# Altium footprint library Connector_Phoenix_MC.PcbLib: 180 footprints (part 3 of 12)
Each footprint in its own frame and in the unit in brackets; x right, y up, seen from the top. Pads: shape width x height; smd on the part's side, far side on the other; paste and mask are expansions set on the pad; w line width, h text height; cw(c..) or ccw(c..) is an arc to the next point about the centre after c.
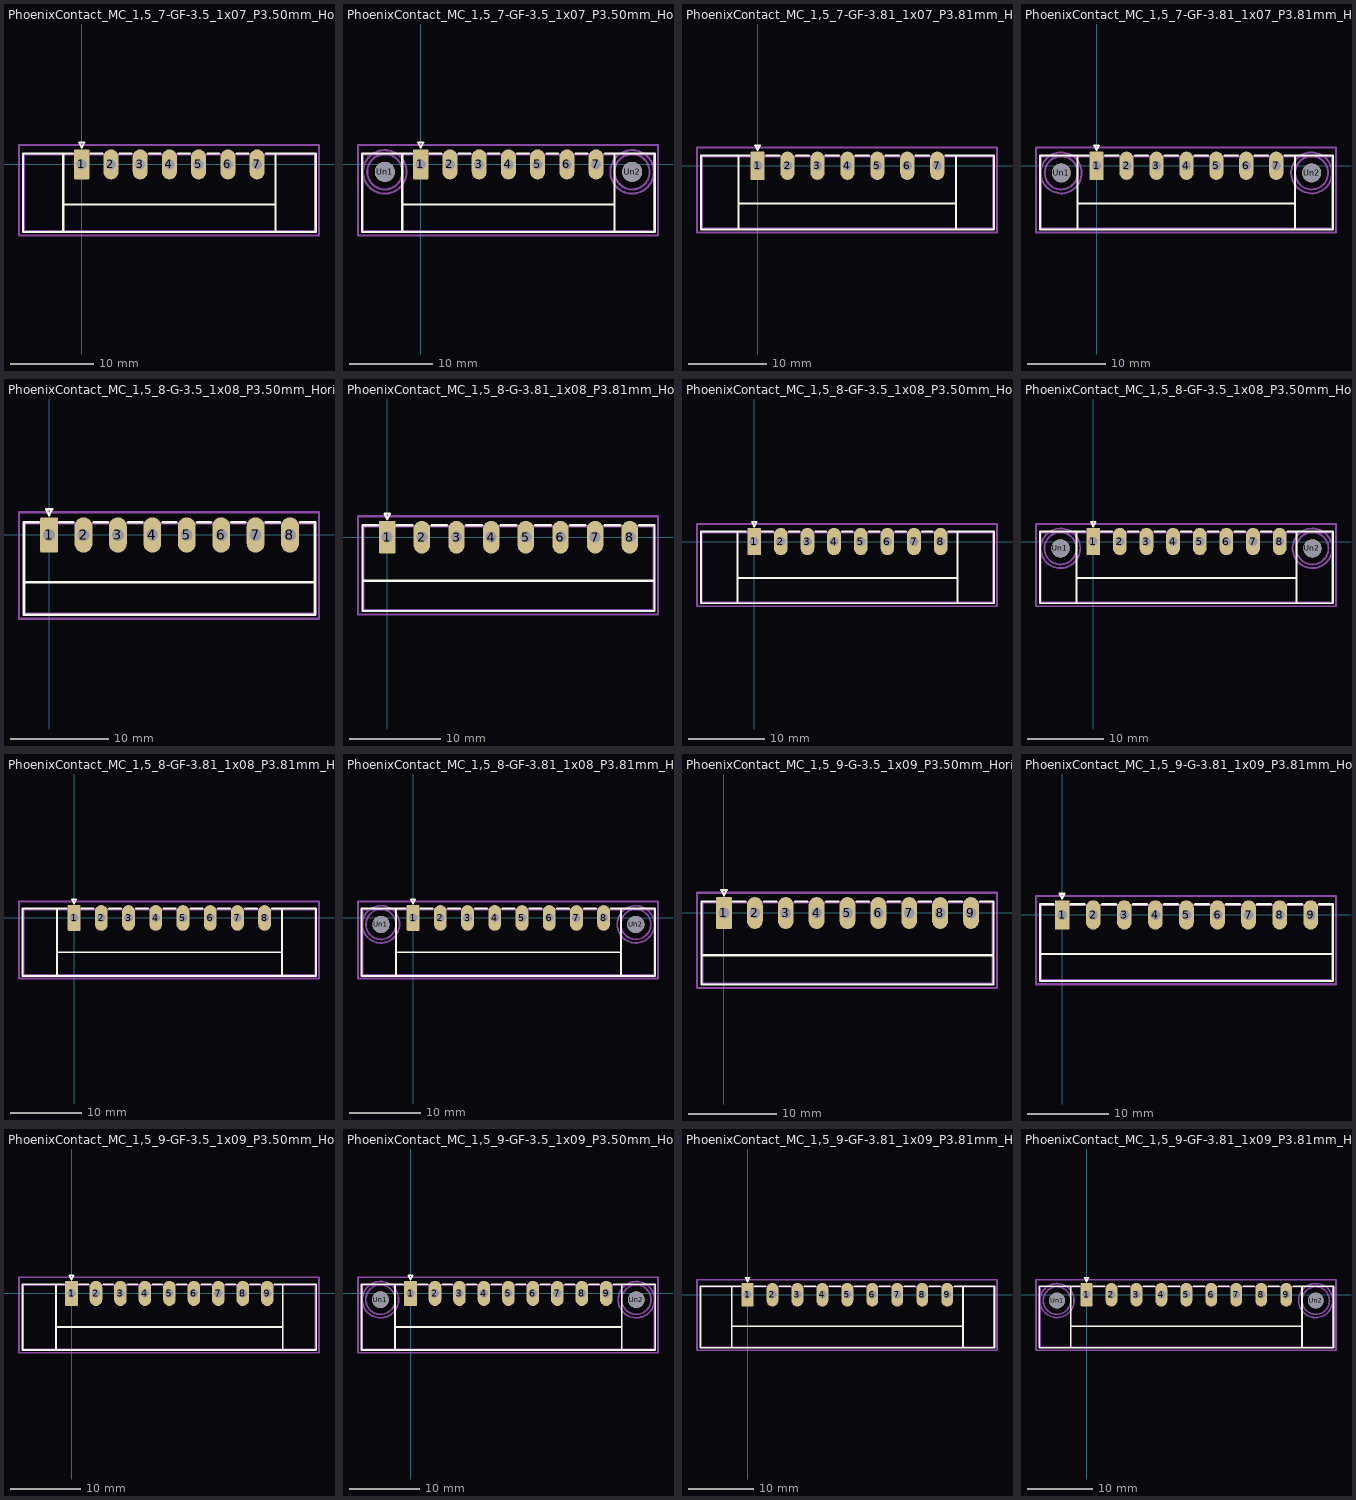
[diagram p2: the footprints below, top view; thin cyan lines are the x and y axes]

## PhoenixContact_MC_1,5_7-GF-3.5_1x07_P3.50mm_Horizontal_ThreadedFlange [mm]
pads (7):
  rrect14% 1.8x3.6 hole 1.2: 1(0,0)
  rrect100% 1.8x3.6 hole 1.2: 2(3.5,0) 3(7,0) 4(10.5,0) 5(14,0) 6(17.5,0) 7(21,0)
F.SilkS:
  lines w0.254: -2.21,-8.11 -2.21,1.31 ; -2.21,-4.8 23.21,-4.8 ; -1.05,1.31 -7.01,1.31 -7.01,-8.11 28.01,-8.11 28.01,1.31 22.05,1.31 ; 1.05,1.31 2.45,1.31 ; 4.55,1.31 5.95,1.31 ; 8.05,1.31 9.45,1.31 ; 11.55,1.31 12.95,1.31 ; 15.05,1.31 16.45,1.31 ; 18.55,1.31 19.95,1.31 ; 23.21,-8.11 23.21,1.31 ; -0.3,2.6 0,2 0.3,2.6 -0.3,2.6
Top Assembly:
  lines w0.254: -0.8,1.2 0,0 0.8,1.2 ; -6.9,-8 27.9,-8 27.9,1.2 -6.9,1.2 -6.9,-8
  text "'.Designator'" at 6.453,-0.34 h1
Top Courtyard:
  lines w0.254: -7.51,-8.5 28.4,-8.5 28.4,2.3 -7.51,2.3 -7.51,-8.5
Top Designator:
  text ".Designator" at 2.827,-3.458 h1.52

## PhoenixContact_MC_1,5_7-GF-3.5_1x07_P3.50mm_Horizontal_ThreadedFlange_MountHole [mm]
pads (9):
  rrect14% 1.8x3.6 hole 1.2: 1(0,0)
  rrect100% 1.8x3.6 hole 1.2: 2(3.5,0) 3(7,0) 4(10.5,0) 5(14,0) 6(17.5,0) 7(21,0)
  round 2.4 hole 2.4: Un1(-4.3,-0.9) Un2(25.3,-0.9)
F.SilkS:
  lines w0.254: -2.21,-8.11 -2.21,1.31 ; -2.21,-4.8 23.21,-4.8 ; -1.05,1.31 -7.01,1.31 -7.01,-8.11 28.01,-8.11 28.01,1.31 22.05,1.31 ; 1.05,1.31 2.45,1.31 ; 4.55,1.31 5.95,1.31 ; 8.05,1.31 9.45,1.31 ; 11.55,1.31 12.95,1.31 ; 15.05,1.31 16.45,1.31 ; 18.55,1.31 19.95,1.31 ; 23.21,-8.11 23.21,1.31 ; -0.3,2.6 0,2 0.3,2.6 -0.3,2.6
B.SilkS:
  circle w0.254: c25.3,-0.9 r2.21
  circle w0.254: c-4.3,-0.9 r2.21
Top Assembly:
  lines w0.254: -0.8,1.2 0,0 0.8,1.2 ; -6.9,-8 27.9,-8 27.9,1.2 -6.9,1.2 -6.9,-8
  text "'.Designator'" at 6.453,-0.34 h1
Bottom Assembly:
  circle w0.254: c25.3,-0.9 r2.1
  circle w0.254: c-4.3,-0.9 r2.1
Top Courtyard:
  lines w0.254: -7.51,-8.5 28.4,-8.5 28.4,2.3 -7.51,2.3 -7.51,-8.5
Bottom Courtyard:
  circle w0.254: c25.3,-0.9 r2.6
  circle w0.254: c-4.3,-0.9 r2.6
Top Designator:
  text ".Designator" at 2.827,-3.458 h1.52

## PhoenixContact_MC_1,5_7-GF-3.81_1x07_P3.81mm_Horizontal_ThreadedFlange [mm]
pads (7):
  rrect14% 1.8x3.6 hole 1.2: 1(0,0)
  rrect100% 1.8x3.6 hole 1.2: 2(3.81,0) 3(7.62,0) 4(11.43,0) 5(15.24,0) 6(19.05,0) 7(22.86,0)
F.SilkS:
  lines w0.254: -2.41,-8.11 -2.41,1.31 ; -2.41,-4.8 25.27,-4.8 ; -1.05,1.31 -7.21,1.31 -7.21,-8.11 30.07,-8.11 30.07,1.31 23.91,1.31 ; 1.05,1.31 2.76,1.31 ; 4.86,1.31 6.57,1.31 ; 8.67,1.31 10.38,1.31 ; 12.48,1.31 14.19,1.31 ; 16.29,1.31 18,1.31 ; 20.1,1.31 21.81,1.31 ; 25.27,-8.11 25.27,1.31 ; -0.3,2.6 0,2 0.3,2.6 -0.3,2.6
Top Assembly:
  lines w0.254: -0.8,1.2 0,0 0.8,1.2 ; -7.1,-8 29.96,-8 29.96,1.2 -7.1,1.2 -7.1,-8
  text "'.Designator'" at 7.383,-0.34 h1
Top Courtyard:
  lines w0.254: -7.71,-8.5 30.46,-8.5 30.46,2.3 -7.71,2.3 -7.71,-8.5
Top Designator:
  text ".Designator" at 3.757,-3.458 h1.52

## PhoenixContact_MC_1,5_7-GF-3.81_1x07_P3.81mm_Horizontal_ThreadedFlange_MountHole [mm]
pads (9):
  rrect14% 1.8x3.6 hole 1.2: 1(0,0)
  rrect100% 1.8x3.6 hole 1.2: 2(3.81,0) 3(7.62,0) 4(11.43,0) 5(15.24,0) 6(19.05,0) 7(22.86,0)
  round 2.4 hole 2.4: Un1(-4.5,-0.9) Un2(27.36,-0.9)
F.SilkS:
  lines w0.254: -2.41,-8.11 -2.41,1.31 ; -2.41,-4.8 25.27,-4.8 ; -1.05,1.31 -7.21,1.31 -7.21,-8.11 30.07,-8.11 30.07,1.31 23.91,1.31 ; 1.05,1.31 2.76,1.31 ; 4.86,1.31 6.57,1.31 ; 8.67,1.31 10.38,1.31 ; 12.48,1.31 14.19,1.31 ; 16.29,1.31 18,1.31 ; 20.1,1.31 21.81,1.31 ; 25.27,-8.11 25.27,1.31 ; -0.3,2.6 0,2 0.3,2.6 -0.3,2.6
B.SilkS:
  circle w0.254: c27.36,-0.9 r2.21
  circle w0.254: c-4.5,-0.9 r2.21
Top Assembly:
  lines w0.254: -0.8,1.2 0,0 0.8,1.2 ; -7.1,-8 29.96,-8 29.96,1.2 -7.1,1.2 -7.1,-8
  text "'.Designator'" at 7.383,-0.34 h1
Bottom Assembly:
  circle w0.254: c27.36,-0.9 r2.1
  circle w0.254: c-4.5,-0.9 r2.1
Top Courtyard:
  lines w0.254: -7.71,-8.5 30.46,-8.5 30.46,2.3 -7.71,2.3 -7.71,-8.5
Bottom Courtyard:
  circle w0.254: c27.36,-0.9 r2.6
  circle w0.254: c-4.5,-0.9 r2.6
Top Designator:
  text ".Designator" at 3.757,-3.458 h1.52

## PhoenixContact_MC_1,5_8-G-3.5_1x08_P3.50mm_Horizontal [mm]
pads (8):
  rrect14% 1.8x3.6 hole 1.2: 1(0,0)
  rrect100% 1.8x3.6 hole 1.2: 2(3.5,0) 3(7,0) 4(10.5,0) 5(14,0) 6(17.5,0) 7(21,0) 8(24.5,0)
F.SilkS:
  lines w0.254: -2.56,-4.8 27.06,-4.8 ; -1.05,1.31 -2.56,1.31 -2.56,-8.11 27.06,-8.11 27.06,1.31 25.55,1.31 ; 1.05,1.31 2.45,1.31 ; 4.55,1.31 5.95,1.31 ; 8.05,1.31 9.45,1.31 ; 11.55,1.31 12.95,1.31 ; 15.05,1.31 16.45,1.31 ; 18.55,1.31 19.95,1.31 ; 22.05,1.31 23.45,1.31 ; -0.3,2.6 0,2 0.3,2.6 -0.3,2.6
Top Assembly:
  lines w0.254: -0.8,1.2 0,0 0.8,1.2 ; -2.45,-8 26.95,-8 26.95,1.2 -2.45,1.2 -2.45,-8
  text "'.Designator'" at 8.203,-0.34 h1
Top Courtyard:
  lines w0.254: -3.06,-8.5 27.45,-8.5 27.45,2.3 -3.06,2.3 -3.06,-8.5
Top Designator:
  text ".Designator" at 4.577,-3.458 h1.52

## PhoenixContact_MC_1,5_8-G-3.81_1x08_P3.81mm_Horizontal [mm]
pads (8):
  rrect14% 1.8x3.6 hole 1.2: 1(0,0)
  rrect100% 1.8x3.6 hole 1.2: 2(3.81,0) 3(7.62,0) 4(11.43,0) 5(15.24,0) 6(19.05,0) 7(22.86,0) 8(26.67,0)
F.SilkS:
  lines w0.254: -2.71,-4.8 29.38,-4.8 ; -1.05,1.31 -2.71,1.31 -2.71,-8.11 29.38,-8.11 29.38,1.31 27.72,1.31 ; 1.05,1.31 2.76,1.31 ; 4.86,1.31 6.57,1.31 ; 8.67,1.31 10.38,1.31 ; 12.48,1.31 14.19,1.31 ; 16.29,1.31 18,1.31 ; 20.1,1.31 21.81,1.31 ; 23.91,1.31 25.62,1.31 ; -0.3,2.6 0,2 0.3,2.6 -0.3,2.6
Top Assembly:
  lines w0.254: -0.8,1.2 0,0 0.8,1.2 ; -2.6,-8 29.27,-8 29.27,1.2 -2.6,1.2 -2.6,-8
  text "'.Designator'" at 9.283,-0.34 h1
Top Courtyard:
  lines w0.254: -3.21,-8.5 29.77,-8.5 29.77,2.3 -3.21,2.3 -3.21,-8.5
Top Designator:
  text ".Designator" at 5.662,-3.458 h1.52

## PhoenixContact_MC_1,5_8-GF-3.5_1x08_P3.50mm_Horizontal_ThreadedFlange [mm]
pads (8):
  rrect14% 1.8x3.6 hole 1.2: 1(0,0)
  rrect100% 1.8x3.6 hole 1.2: 2(3.5,0) 3(7,0) 4(10.5,0) 5(14,0) 6(17.5,0) 7(21,0) 8(24.5,0)
F.SilkS:
  lines w0.254: -2.21,-8.11 -2.21,1.31 ; -2.21,-4.8 26.71,-4.8 ; -1.05,1.31 -7.01,1.31 -7.01,-8.11 31.51,-8.11 31.51,1.31 25.55,1.31 ; 1.05,1.31 2.45,1.31 ; 4.55,1.31 5.95,1.31 ; 8.05,1.31 9.45,1.31 ; 11.55,1.31 12.95,1.31 ; 15.05,1.31 16.45,1.31 ; 18.55,1.31 19.95,1.31 ; 22.05,1.31 23.45,1.31 ; 26.71,-8.11 26.71,1.31 ; -0.3,2.6 0,2 0.3,2.6 -0.3,2.6
Top Assembly:
  lines w0.254: -0.8,1.2 0,0 0.8,1.2 ; -6.9,-8 31.4,-8 31.4,1.2 -6.9,1.2 -6.9,-8
  text "'.Designator'" at 8.203,-0.34 h1
Top Courtyard:
  lines w0.254: -7.51,-8.5 31.9,-8.5 31.9,2.3 -7.51,2.3 -7.51,-8.5
Top Designator:
  text ".Designator" at 4.577,-3.458 h1.52

## PhoenixContact_MC_1,5_8-GF-3.5_1x08_P3.50mm_Horizontal_ThreadedFlange_MountHole [mm]
pads (10):
  rrect14% 1.8x3.6 hole 1.2: 1(0,0)
  rrect100% 1.8x3.6 hole 1.2: 2(3.5,0) 3(7,0) 4(10.5,0) 5(14,0) 6(17.5,0) 7(21,0) 8(24.5,0)
  round 2.4 hole 2.4: Un1(-4.3,-0.9) Un2(28.8,-0.9)
F.SilkS:
  lines w0.254: -2.21,-8.11 -2.21,1.31 ; -2.21,-4.8 26.71,-4.8 ; -1.05,1.31 -7.01,1.31 -7.01,-8.11 31.51,-8.11 31.51,1.31 25.55,1.31 ; 1.05,1.31 2.45,1.31 ; 4.55,1.31 5.95,1.31 ; 8.05,1.31 9.45,1.31 ; 11.55,1.31 12.95,1.31 ; 15.05,1.31 16.45,1.31 ; 18.55,1.31 19.95,1.31 ; 22.05,1.31 23.45,1.31 ; 26.71,-8.11 26.71,1.31 ; -0.3,2.6 0,2 0.3,2.6 -0.3,2.6
B.SilkS:
  circle w0.254: c28.8,-0.9 r2.21
  circle w0.254: c-4.3,-0.9 r2.21
Top Assembly:
  lines w0.254: -0.8,1.2 0,0 0.8,1.2 ; -6.9,-8 31.4,-8 31.4,1.2 -6.9,1.2 -6.9,-8
  text "'.Designator'" at 8.203,-0.34 h1
Bottom Assembly:
  circle w0.254: c28.8,-0.9 r2.1
  circle w0.254: c-4.3,-0.9 r2.1
Top Courtyard:
  lines w0.254: -7.51,-8.5 31.9,-8.5 31.9,2.3 -7.51,2.3 -7.51,-8.5
Bottom Courtyard:
  circle w0.254: c28.8,-0.9 r2.6
  circle w0.254: c-4.3,-0.9 r2.6
Top Designator:
  text ".Designator" at 4.577,-3.458 h1.52

## PhoenixContact_MC_1,5_8-GF-3.81_1x08_P3.81mm_Horizontal_ThreadedFlange [mm]
pads (8):
  rrect14% 1.8x3.6 hole 1.2: 1(0,0)
  rrect100% 1.8x3.6 hole 1.2: 2(3.81,0) 3(7.62,0) 4(11.43,0) 5(15.24,0) 6(19.05,0) 7(22.86,0) 8(26.67,0)
F.SilkS:
  lines w0.254: -2.41,-8.11 -2.41,1.31 ; -2.41,-4.8 29.08,-4.8 ; -1.05,1.31 -7.21,1.31 -7.21,-8.11 33.88,-8.11 33.88,1.31 27.72,1.31 ; 1.05,1.31 2.76,1.31 ; 4.86,1.31 6.57,1.31 ; 8.67,1.31 10.38,1.31 ; 12.48,1.31 14.19,1.31 ; 16.29,1.31 18,1.31 ; 20.1,1.31 21.81,1.31 ; 23.91,1.31 25.62,1.31 ; 29.08,-8.11 29.08,1.31 ; -0.3,2.6 0,2 0.3,2.6 -0.3,2.6
Top Assembly:
  lines w0.254: -0.8,1.2 0,0 0.8,1.2 ; -7.1,-8 33.77,-8 33.77,1.2 -7.1,1.2 -7.1,-8
  text "'.Designator'" at 9.293,-0.34 h1
Top Courtyard:
  lines w0.254: -7.71,-8.5 34.28,-8.5 34.28,2.3 -7.71,2.3 -7.71,-8.5
Top Designator:
  text ".Designator" at 5.667,-3.458 h1.52

## PhoenixContact_MC_1,5_8-GF-3.81_1x08_P3.81mm_Horizontal_ThreadedFlange_MountHole [mm]
pads (10):
  rrect14% 1.8x3.6 hole 1.2: 1(0,0)
  rrect100% 1.8x3.6 hole 1.2: 2(3.81,0) 3(7.62,0) 4(11.43,0) 5(15.24,0) 6(19.05,0) 7(22.86,0) 8(26.67,0)
  round 2.4 hole 2.4: Un1(-4.5,-0.9) Un2(31.17,-0.9)
F.SilkS:
  lines w0.254: -2.41,-8.11 -2.41,1.31 ; -2.41,-4.8 29.08,-4.8 ; -1.05,1.31 -7.21,1.31 -7.21,-8.11 33.88,-8.11 33.88,1.31 27.72,1.31 ; 1.05,1.31 2.76,1.31 ; 4.86,1.31 6.57,1.31 ; 8.67,1.31 10.38,1.31 ; 12.48,1.31 14.19,1.31 ; 16.29,1.31 18,1.31 ; 20.1,1.31 21.81,1.31 ; 23.91,1.31 25.62,1.31 ; 29.08,-8.11 29.08,1.31 ; -0.3,2.6 0,2 0.3,2.6 -0.3,2.6
B.SilkS:
  circle w0.254: c31.17,-0.9 r2.21
  circle w0.254: c-4.5,-0.9 r2.21
Top Assembly:
  lines w0.254: -0.8,1.2 0,0 0.8,1.2 ; -7.1,-8 33.77,-8 33.77,1.2 -7.1,1.2 -7.1,-8
  text "'.Designator'" at 9.293,-0.34 h1
Bottom Assembly:
  circle w0.254: c31.17,-0.9 r2.1
  circle w0.254: c-4.5,-0.9 r2.1
Top Courtyard:
  lines w0.254: -7.71,-8.5 34.28,-8.5 34.28,2.3 -7.71,2.3 -7.71,-8.5
Bottom Courtyard:
  circle w0.254: c31.17,-0.9 r2.6
  circle w0.254: c-4.5,-0.9 r2.6
Top Designator:
  text ".Designator" at 5.667,-3.458 h1.52

## PhoenixContact_MC_1,5_9-G-3.5_1x09_P3.50mm_Horizontal [mm]
pads (9):
  rrect14% 1.8x3.6 hole 1.2: 1(0,0)
  rrect100% 1.8x3.6 hole 1.2: 2(3.5,0) 3(7,0) 4(10.5,0) 5(14,0) 6(17.5,0) 7(21,0) 8(24.5,0) 9(28,0)
F.SilkS:
  lines w0.254: -2.56,-4.8 30.56,-4.8 ; -1.05,1.31 -2.56,1.31 -2.56,-8.11 30.56,-8.11 30.56,1.31 29.05,1.31 ; 1.05,1.31 2.45,1.31 ; 4.55,1.31 5.95,1.31 ; 8.05,1.31 9.45,1.31 ; 11.55,1.31 12.95,1.31 ; 15.05,1.31 16.45,1.31 ; 18.55,1.31 19.95,1.31 ; 22.05,1.31 23.45,1.31 ; 25.55,1.31 26.95,1.31 ; -0.3,2.6 0,2 0.3,2.6 -0.3,2.6
Top Assembly:
  lines w0.254: -0.8,1.2 0,0 0.8,1.2 ; -2.45,-8 30.45,-8 30.45,1.2 -2.45,1.2 -2.45,-8
  text "'.Designator'" at 9.953,-0.34 h1
Top Courtyard:
  lines w0.254: -3.06,-8.5 30.95,-8.5 30.95,2.3 -3.06,2.3 -3.06,-8.5
Top Designator:
  text ".Designator" at 6.327,-3.458 h1.52

## PhoenixContact_MC_1,5_9-G-3.81_1x09_P3.81mm_Horizontal [mm]
pads (9):
  rrect14% 1.8x3.6 hole 1.2: 1(0,0)
  rrect100% 1.8x3.6 hole 1.2: 2(3.81,0) 3(7.62,0) 4(11.43,0) 5(15.24,0) 6(19.05,0) 7(22.86,0) 8(26.67,0) 9(30.48,0)
F.SilkS:
  lines w0.254: -2.71,-4.8 33.19,-4.8 ; -1.05,1.31 -2.71,1.31 -2.71,-8.11 33.19,-8.11 33.19,1.31 31.53,1.31 ; 1.05,1.31 2.76,1.31 ; 4.86,1.31 6.57,1.31 ; 8.67,1.31 10.38,1.31 ; 12.48,1.31 14.19,1.31 ; 16.29,1.31 18,1.31 ; 20.1,1.31 21.81,1.31 ; 23.91,1.31 25.62,1.31 ; 27.72,1.31 29.43,1.31 ; -0.3,2.6 0,2 0.3,2.6 -0.3,2.6
Top Assembly:
  lines w0.254: -0.8,1.2 0,0 0.8,1.2 ; -2.6,-8 33.08,-8 33.08,1.2 -2.6,1.2 -2.6,-8
  text "'.Designator'" at 11.193,-0.34 h1
Top Courtyard:
  lines w0.254: -3.21,-8.5 33.58,-8.5 33.58,2.3 -3.21,2.3 -3.21,-8.5
Top Designator:
  text ".Designator" at 7.567,-3.458 h1.52

## PhoenixContact_MC_1,5_9-GF-3.5_1x09_P3.50mm_Horizontal_ThreadedFlange [mm]
pads (9):
  rrect14% 1.8x3.6 hole 1.2: 1(0,0)
  rrect100% 1.8x3.6 hole 1.2: 2(3.5,0) 3(7,0) 4(10.5,0) 5(14,0) 6(17.5,0) 7(21,0) 8(24.5,0) 9(28,0)
F.SilkS:
  lines w0.254: -2.21,-8.11 -2.21,1.31 ; -2.21,-4.8 30.21,-4.8 ; -1.05,1.31 -7.01,1.31 -7.01,-8.11 35.01,-8.11 35.01,1.31 29.05,1.31 ; 1.05,1.31 2.45,1.31 ; 4.55,1.31 5.95,1.31 ; 8.05,1.31 9.45,1.31 ; 11.55,1.31 12.95,1.31 ; 15.05,1.31 16.45,1.31 ; 18.55,1.31 19.95,1.31 ; 22.05,1.31 23.45,1.31 ; 25.55,1.31 26.95,1.31 ; 30.21,-8.11 30.21,1.31 ; -0.3,2.6 0,2 0.3,2.6 -0.3,2.6
Top Assembly:
  lines w0.254: -0.8,1.2 0,0 0.8,1.2 ; -6.9,-8 34.9,-8 34.9,1.2 -6.9,1.2 -6.9,-8
  text "'.Designator'" at 9.953,-0.34 h1
Top Courtyard:
  lines w0.254: -7.51,-8.5 35.4,-8.5 35.4,2.3 -7.51,2.3 -7.51,-8.5
Top Designator:
  text ".Designator" at 6.327,-3.458 h1.52

## PhoenixContact_MC_1,5_9-GF-3.5_1x09_P3.50mm_Horizontal_ThreadedFlange_MountHole [mm]
pads (11):
  rrect14% 1.8x3.6 hole 1.2: 1(0,0)
  rrect100% 1.8x3.6 hole 1.2: 2(3.5,0) 3(7,0) 4(10.5,0) 5(14,0) 6(17.5,0) 7(21,0) 8(24.5,0) 9(28,0)
  round 2.4 hole 2.4: Un1(-4.3,-0.9) Un2(32.3,-0.9)
F.SilkS:
  lines w0.254: -2.21,-8.11 -2.21,1.31 ; -2.21,-4.8 30.21,-4.8 ; -1.05,1.31 -7.01,1.31 -7.01,-8.11 35.01,-8.11 35.01,1.31 29.05,1.31 ; 1.05,1.31 2.45,1.31 ; 4.55,1.31 5.95,1.31 ; 8.05,1.31 9.45,1.31 ; 11.55,1.31 12.95,1.31 ; 15.05,1.31 16.45,1.31 ; 18.55,1.31 19.95,1.31 ; 22.05,1.31 23.45,1.31 ; 25.55,1.31 26.95,1.31 ; 30.21,-8.11 30.21,1.31 ; -0.3,2.6 0,2 0.3,2.6 -0.3,2.6
B.SilkS:
  circle w0.254: c32.3,-0.9 r2.21
  circle w0.254: c-4.3,-0.9 r2.21
Top Assembly:
  lines w0.254: -0.8,1.2 0,0 0.8,1.2 ; -6.9,-8 34.9,-8 34.9,1.2 -6.9,1.2 -6.9,-8
  text "'.Designator'" at 9.953,-0.34 h1
Bottom Assembly:
  circle w0.254: c32.3,-0.9 r2.1
  circle w0.254: c-4.3,-0.9 r2.1
Top Courtyard:
  lines w0.254: -7.51,-8.5 35.4,-8.5 35.4,2.3 -7.51,2.3 -7.51,-8.5
Bottom Courtyard:
  circle w0.254: c32.3,-0.9 r2.6
  circle w0.254: c-4.3,-0.9 r2.6
Top Designator:
  text ".Designator" at 6.327,-3.458 h1.52

## PhoenixContact_MC_1,5_9-GF-3.81_1x09_P3.81mm_Horizontal_ThreadedFlange [mm]
pads (9):
  rrect14% 1.8x3.6 hole 1.2: 1(0,0)
  rrect100% 1.8x3.6 hole 1.2: 2(3.81,0) 3(7.62,0) 4(11.43,0) 5(15.24,0) 6(19.05,0) 7(22.86,0) 8(26.67,0) 9(30.48,0)
F.SilkS:
  lines w0.254: -2.41,-8.11 -2.41,1.31 ; -2.41,-4.8 32.89,-4.8 ; -1.05,1.31 -7.21,1.31 -7.21,-8.11 37.69,-8.11 37.69,1.31 31.53,1.31 ; 1.05,1.31 2.76,1.31 ; 4.86,1.31 6.57,1.31 ; 8.67,1.31 10.38,1.31 ; 12.48,1.31 14.19,1.31 ; 16.29,1.31 18,1.31 ; 20.1,1.31 21.81,1.31 ; 23.91,1.31 25.62,1.31 ; 27.72,1.31 29.43,1.31 ; 32.89,-8.11 32.89,1.31 ; -0.3,2.6 0,2 0.3,2.6 -0.3,2.6
Top Assembly:
  lines w0.254: -0.8,1.2 0,0 0.8,1.2 ; -7.1,-8 37.58,-8 37.58,1.2 -7.1,1.2 -7.1,-8
  text "'.Designator'" at 11.193,-0.34 h1
Top Courtyard:
  lines w0.254: -7.71,-8.5 38.08,-8.5 38.08,2.3 -7.71,2.3 -7.71,-8.5
Top Designator:
  text ".Designator" at 7.567,-3.458 h1.52

## PhoenixContact_MC_1,5_9-GF-3.81_1x09_P3.81mm_Horizontal_ThreadedFlange_MountHole [mm]
pads (11):
  rrect14% 1.8x3.6 hole 1.2: 1(0,0)
  rrect100% 1.8x3.6 hole 1.2: 2(3.81,0) 3(7.62,0) 4(11.43,0) 5(15.24,0) 6(19.05,0) 7(22.86,0) 8(26.67,0) 9(30.48,0)
  round 2.4 hole 2.4: Un1(-4.5,-0.9) Un2(34.98,-0.9)
F.SilkS:
  lines w0.254: -2.41,-8.11 -2.41,1.31 ; -2.41,-4.8 32.89,-4.8 ; -1.05,1.31 -7.21,1.31 -7.21,-8.11 37.69,-8.11 37.69,1.31 31.53,1.31 ; 1.05,1.31 2.76,1.31 ; 4.86,1.31 6.57,1.31 ; 8.67,1.31 10.38,1.31 ; 12.48,1.31 14.19,1.31 ; 16.29,1.31 18,1.31 ; 20.1,1.31 21.81,1.31 ; 23.91,1.31 25.62,1.31 ; 27.72,1.31 29.43,1.31 ; 32.89,-8.11 32.89,1.31 ; -0.3,2.6 0,2 0.3,2.6 -0.3,2.6
B.SilkS:
  circle w0.254: c34.98,-0.9 r2.21
  circle w0.254: c-4.5,-0.9 r2.21
Top Assembly:
  lines w0.254: -0.8,1.2 0,0 0.8,1.2 ; -7.1,-8 37.58,-8 37.58,1.2 -7.1,1.2 -7.1,-8
  text "'.Designator'" at 11.193,-0.34 h1
Bottom Assembly:
  circle w0.254: c34.98,-0.9 r2.1
  circle w0.254: c-4.5,-0.9 r2.1
Top Courtyard:
  lines w0.254: -7.71,-8.5 38.08,-8.5 38.08,2.3 -7.71,2.3 -7.71,-8.5
Bottom Courtyard:
  circle w0.254: c34.98,-0.9 r2.6
  circle w0.254: c-4.5,-0.9 r2.6
Top Designator:
  text ".Designator" at 7.567,-3.458 h1.52